# Altium schematic symbol library 4xxx_IEEE.SchLib: 98 symbols
Pins are listed as number, name and electrical type; pins without a type are passive.

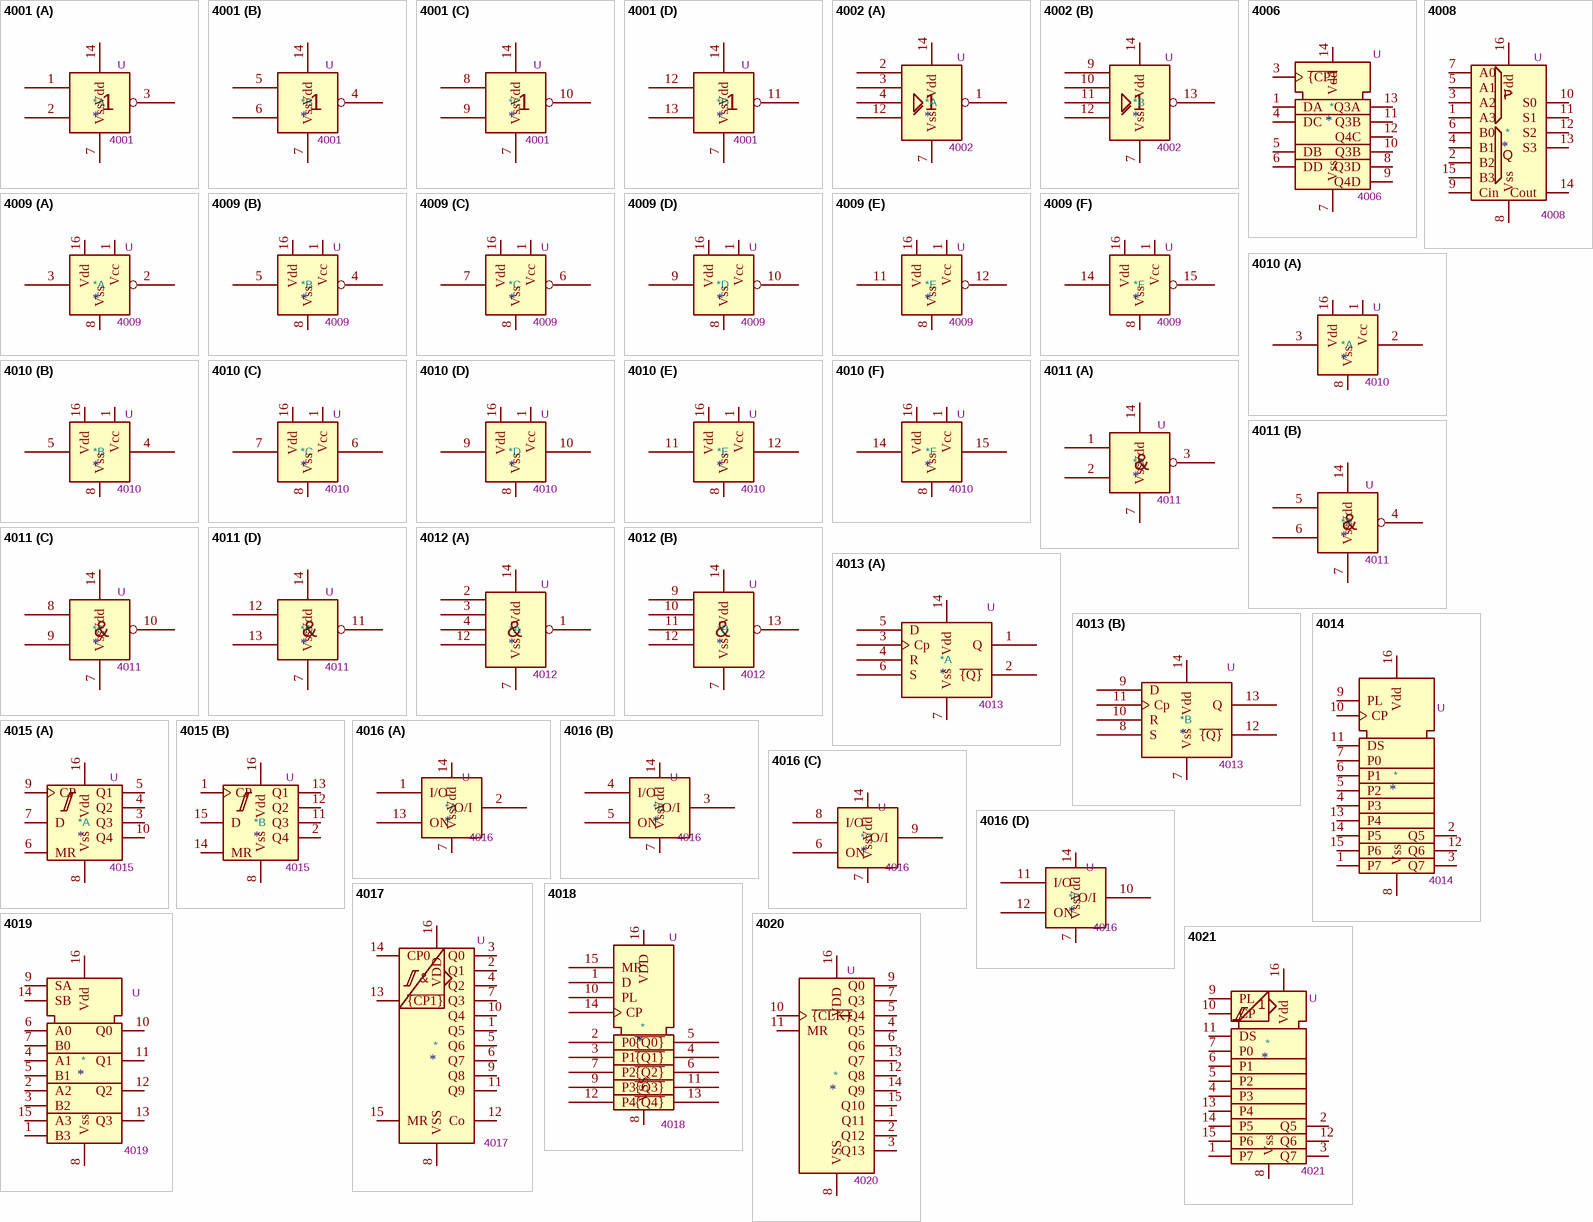
[diagram p0: symbols 4001 to 4021]

## 4001
designator *  value 4001  Reference: U
part A pins: 1, 2, 3, 7 Vss, 14 Vdd
part B pins: 4, 5, 6, 7 Vss, 14 Vdd
part C pins: 7 Vss, 8, 9, 10, 14 Vdd
part D pins: 7 Vss, 11, 12, 13, 14 Vdd

## 4002
designator *  value 4002  Reference: U
part A pins: 1, 2, 3, 4, 7 Vss, 12, 14 Vdd
part B pins: 7 Vss, 9, 10, 11, 12, 13, 14 Vdd

## 4006
designator *  value 4006  Reference: U
pins: 1 DA, 3 ~{{CP}}, 4 DC, 5 DB, 6 DD, 7 Vss, 8 Q3D, 9 Q4D, 10 Q3B, 11 Q3B, 12 Q4C, 13 Q3A, 14 Vdd

## 4008
designator *  value 4008  Reference: U
pins: 1 A3, 2 B2, 3 A2, 4 B1, 5 A1, 6 B0, 7 A0, 8 Vss, 9 Cin, 10 S0, 11 S1, 12 S2, 13 S3, 14 Cout, 15 B3, 16 Vdd
text: P; Q

## 4009
designator *  value 4009  Reference: U
part A pins: 1 Vcc, 2, 3, 8 Vss, 16 Vdd
part B pins: 1 Vcc, 4, 5, 8 Vss, 16 Vdd
part C pins: 1 Vcc, 6, 7, 8 Vss, 16 Vdd
part D pins: 1 Vcc, 8 Vss, 9, 10, 16 Vdd
part E pins: 1 Vcc, 8 Vss, 11, 12, 16 Vdd
part F pins: 1 Vcc, 8 Vss, 14, 15, 16 Vdd

## 4010
designator *  value 4010  Reference: U
part A pins: 1 Vcc, 2, 3, 8 Vss, 16 Vdd
part B pins: 1 Vcc, 4, 5, 8 Vss, 16 Vdd
part C pins: 1 Vcc, 6, 7, 8 Vss, 16 Vdd
part D pins: 1 Vcc, 8 Vss, 9, 10, 16 Vdd
part E pins: 1 Vcc, 8 Vss, 11, 12, 16 Vdd
part F pins: 1 Vcc, 8 Vss, 14, 15, 16 Vdd

## 4011
designator *  value 4011  Reference: U
part A pins: 1, 2, 3, 7 Vss, 14 Vdd
part B pins: 4, 5, 6, 7 Vss, 14 Vdd
part C pins: 7 Vss, 8, 9, 10, 14 Vdd
part D pins: 7 Vss, 11, 12, 13, 14 Vdd
part A text: &
part B text: &
part C text: &
part D text: &

## 4012
designator *  value 4012  Reference: U
part A pins: 1, 2, 3, 4, 7 Vss, 12, 14 Vdd
part B pins: 7 Vss, 9, 10, 11, 12, 13, 14 Vdd
part A text: &
part B text: &

## 4013
designator *  value 4013  Reference: U
part A pins: 1 Q, 2 ~{{Q}}, 3 Cp, 4 R, 5 D, 6 S, 7 Vss, 14 Vdd
part B pins: 7 Vss, 8 S, 9 D, 10 R, 11 Cp, 12 ~{{Q}}, 13 Q, 14 Vdd

## 4014
designator *  value 4014  Reference: U
pins: 1 P7, 2 Q5, 3 Q7, 4 P3, 5 P2, 6 P1, 7 P0, 8 Vss, 9 PL, 10 CP, 11 DS, 12 Q6, 13 P4, 14 P5, 15 P6, 16 Vdd

## 4015
designator *  value 4015  Reference: U
part A pins: 3 Q3, 4 Q2, 5 Q1, 6 MR, 7 D, 8 Vss, 9 CP, 10 Q4, 16 Vdd
part B pins: 1 CP, 2 Q4, 8 Vss, 11 Q3, 12 Q2, 13 Q1, 14 MR, 15 D, 16 Vdd

## 4016
designator *  value 4016  Reference: U
part A pins: 1 I/O, 2 O/I, 7 Vss, 13 ON, 14 Vdd
part B pins: 3 O/I, 4 I/O, 5 ON, 7 Vss, 14 Vdd
part C pins: 6 ON, 7 Vss, 8 I/O, 9 O/I, 14 Vdd
part D pins: 7 Vss, 10 O/I, 11 I/O, 12 ON, 14 Vdd

## 4017
designator *  value 4017  Reference: U
pins: 1 Q5, 2 Q1, 3 Q0, 4 Q2, 5 Q6, 6 Q7, 7 Q3, 8 VSS, 9 Q8, 10 Q4, 11 Q9, 12 Co, 13 ~{{CP1}}, 14 CP0, 15 MR, 16 VDD
text: &

## 4018
designator *  value 4018  Reference: U
pins: 1 D, 2 P0, 3 P1, 4 ~{{Q1}}, 5 ~{{Q0}}, 6 ~{{Q2}}, 7 P2, 8 VSS, 9 P3, 10 PL, 11 ~{{Q3}}, 12 P4, 13 ~{{Q4}}, 14 CP, 15 MR, 16 VDD

## 4019
designator *  value 4019  Reference: U
pins: 1 B3, 2 A2, 3 B2, 4 A1, 5 B1, 6 A0, 7 B0, 8 Vss, 9 SA, 10 Q0, 11 Q1, 12 Q2, 13 Q3, 14 SB, 15 A3, 16 Vdd

## 4020
designator *  value 4020  Reference: U
pins: 1 Q11, 2 Q12, 3 Q13, 4 Q5, 5 Q4, 6 Q6, 7 Q3, 8 VSS, 9 Q0, 10 ~{{CLK}}, 11 MR, 12 Q8, 13 Q7, 14 Q9, 15 Q10, 16 VDD

## 4021
designator *  value 4021  Reference: U
pins: 1 P7, 2 Q5, 3 Q7, 4 P3, 5 P2, 6 P1, 7 P0, 8 Vss, 9 PL, 10 CP, 11 DS, 12 Q6, 13 P4, 14 P5, 15 P6, 16 Vdd

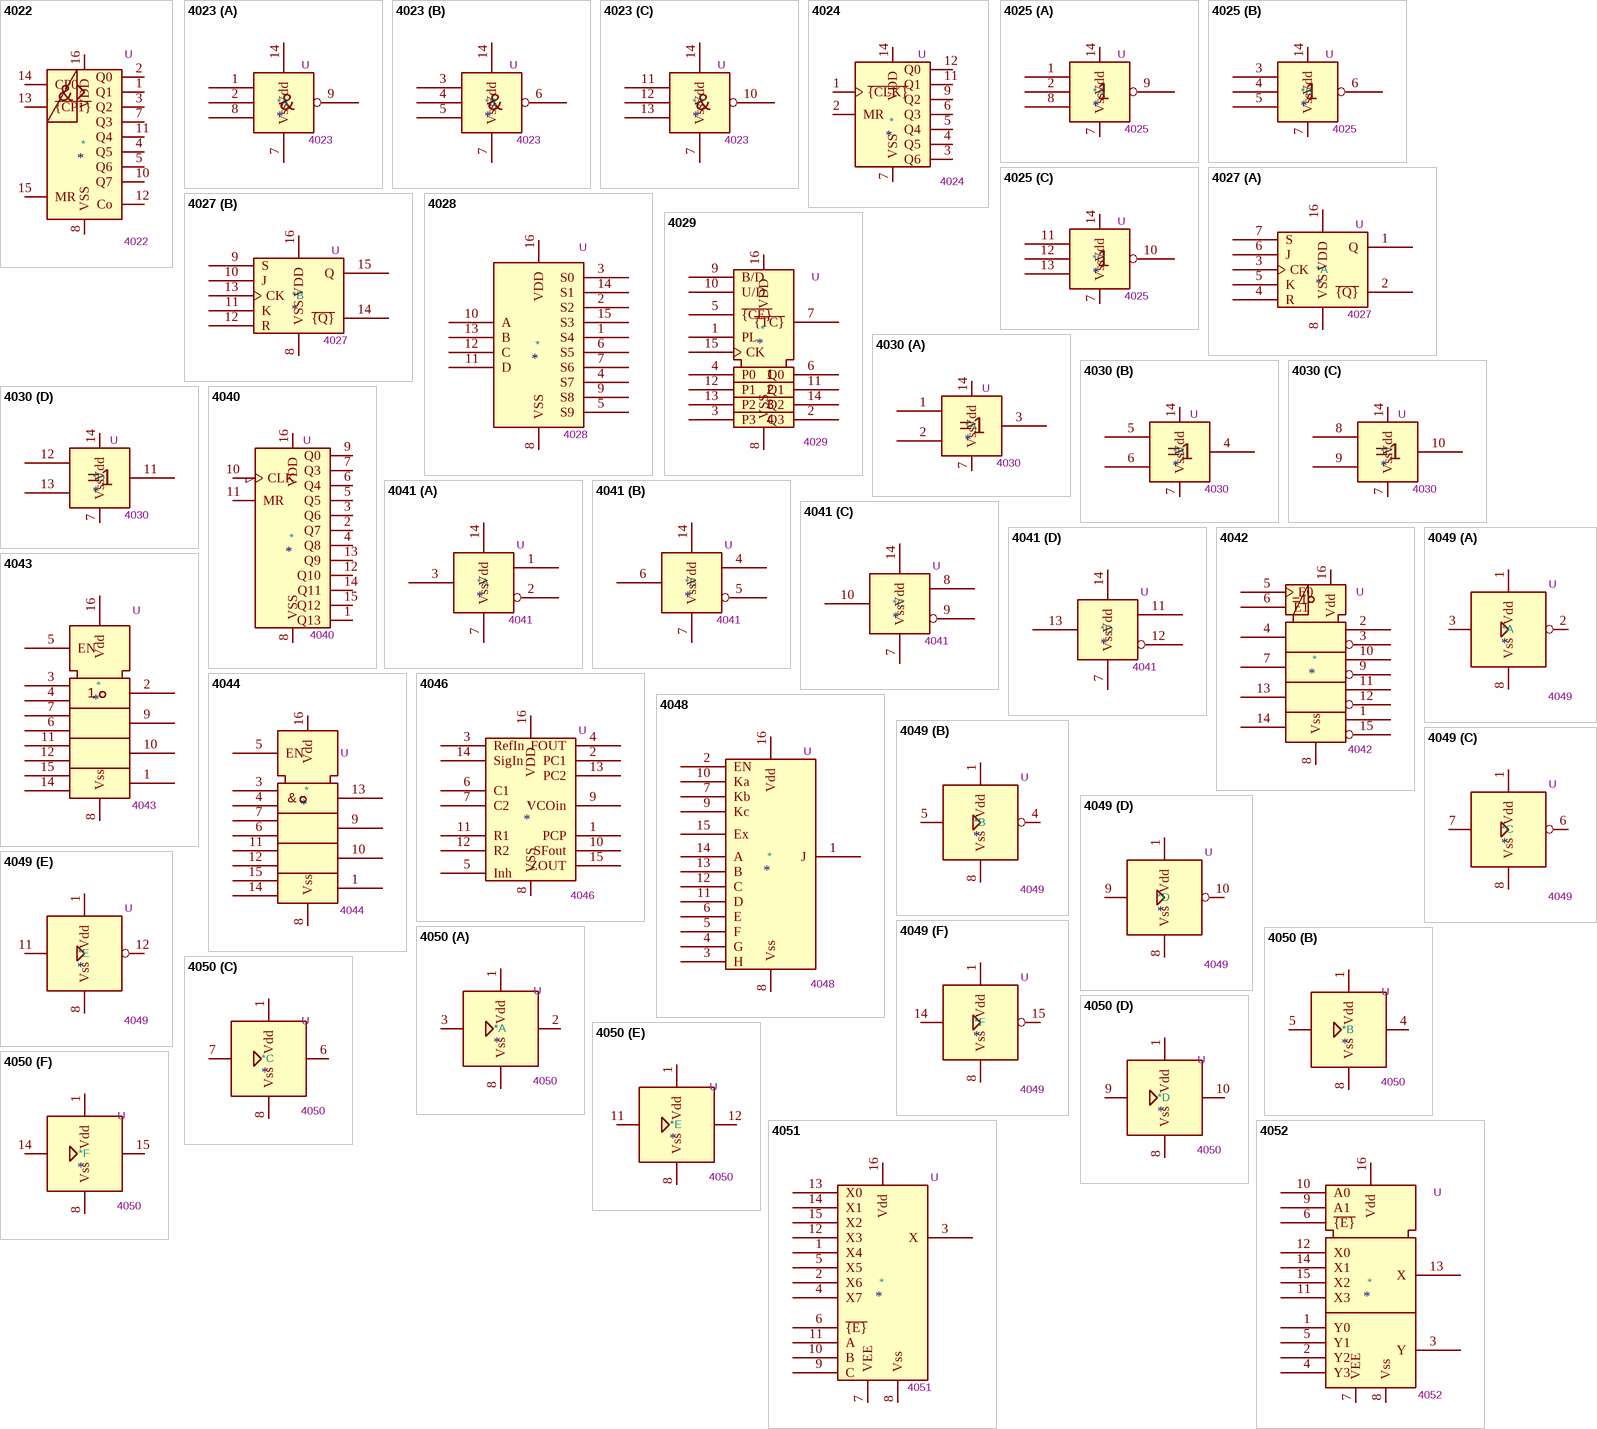
[diagram p1: symbols 4022 to 4052]

## 4022
designator *  value 4022  Reference: U
pins: 1 Q1, 2 Q0, 3 Q2, 4 Q5, 5 Q6, 7 Q3, 8 VSS, 10 Q7, 11 Q4, 12 Co, 13 ~{{CP1}}, 14 CP0, 15 MR, 16 VDD
text: &

## 4023
designator *  value 4023  Reference: U
part A pins: 1, 2, 7 Vss, 8, 9, 14 Vdd
part B pins: 3, 4, 5, 6, 7 Vss, 14 Vdd
part C pins: 7 Vss, 10, 11, 12, 13, 14 Vdd
part A text: &
part B text: &
part C text: &

## 4024
designator *  value 4024  Reference: U
pins: 1 ~{{CLK}}, 2 MR, 3 Q6, 4 Q5, 5 Q4, 6 Q3, 7 VSS, 9 Q2, 11 Q1, 12 Q0, 14 VDD

## 4025
designator *  value 4025  Reference: U
part A pins: 1, 2, 7 Vss, 8, 9, 14 Vdd
part B pins: 3, 4, 5, 6, 7 Vss, 14 Vdd
part C pins: 7 Vss, 10, 11, 12, 13, 14 Vdd

## 4027
designator *  value 4027  Reference: U
part A pins: 1 Q, 2 ~{{Q}}, 3 CK, 4 R, 5 K, 6 J, 7 S, 8 VSS, 16 VDD
part B pins: 8 VSS, 9 S, 10 J, 11 K, 12 R, 13 CK, 14 ~{{Q}}, 15 Q, 16 VDD

## 4028
designator *  value 4028  Reference: U
pins: 1 S4, 2 S2, 3 S0, 4 S7, 5 S9, 6 S5, 7 S6, 8 VSS, 9 S8, 10 A, 11 D, 12 C, 13 B, 14 S1, 15 S3, 16 VDD

## 4029
designator *  value 4029  Reference: U
pins: 1 PL, 2 Q3, 3 P3, 4 P0, 5 ~{{CE}}, 6 Q0, 7 ~{{TC}}, 8 VSS, 9 B/D, 10 U/D, 11 Q1, 12 P1, 13 P2, 14 Q2, 15 CK, 16 VDD

## 4030
designator *  value 4030  Reference: U
part A pins: 1, 2, 3, 7 Vss, 14 Vdd
part B pins: 4, 5, 6, 7 Vss, 14 Vdd
part C pins: 7 Vss, 8, 9, 10, 14 Vdd
part D pins: 7 Vss, 11, 12, 13, 14 Vdd

## 4040
designator *  value 4040  Reference: U
pins: 1 Q13, 2 Q7, 3 Q6, 4 Q8, 5 Q5, 6 Q4, 7 Q3, 8 VSS, 9 Q0, 10 CLK, 11 MR, 12 Q10, 13 Q9, 14 Q11, 15 Q12, 16 VDD

## 4041
designator *  value 4041  Reference: U
part A pins: 1, 2, 3, 7 Vss, 14 Vdd
part B pins: 4, 5, 6, 7 Vss, 14 Vdd
part C pins: 7 Vss, 8, 9, 10, 14 Vdd
part D pins: 7 Vss, 11, 12, 13, 14 Vdd

## 4042
designator *  value 4042  Reference: U
pins: 1, 2, 3, 4, 5 E0, 6 E1, 7, 8 Vss, 9, 10, 11, 12, 13, 14, 15, 16 Vdd

## 4043
designator *  value 4043  Reference: U
pins: 1, 2, 3, 4, 5 EN, 6, 7, 8 Vss, 9, 10, 11, 12, 14, 15, 16 Vdd

## 4044
designator *  value 4044  Reference: U
pins: 1, 3, 4, 5 EN, 6, 7, 8 Vss, 9, 10, 11, 12, 13, 14, 15, 16 Vdd
text: &

## 4046
designator *  value 4046  Reference: U
pins: 1 PCP, 2 PC1, 3 RefIn, 4 FOUT, 5 Inh, 6 C1, 7 C2, 8 VSS, 9 VCOin, 10 SFout, 11 R1, 12 R2, 13 PC2, 14 SigIn, 15 ZOUT, 16 VDD

## 4048
designator *  value 4048  Reference: U
pins: 1 J, 2 EN, 3 H, 4 G, 5 F, 6 E, 7 Kb, 8 Vss, 9 Kc, 10 Ka, 11 D, 12 C, 13 B, 14 A, 15 Ex, 16 Vdd

## 4049
designator *  value 4049  Reference: U
part A pins: 1 Vdd, 2, 3, 8 Vss
part B pins: 1 Vdd, 4, 5, 8 Vss
part C pins: 1 Vdd, 6, 7, 8 Vss
part D pins: 1 Vdd, 8 Vss, 9, 10
part E pins: 1 Vdd, 8 Vss, 11, 12
part F pins: 1 Vdd, 8 Vss, 14, 15

## 4050
designator *  value 4050  Reference: U
part A pins: 1 Vdd, 2, 3, 8 Vss
part B pins: 1 Vdd, 4, 5, 8 Vss
part C pins: 1 Vdd, 6, 7, 8 Vss
part D pins: 1 Vdd, 8 Vss, 9, 10
part E pins: 1 Vdd, 8 Vss, 11, 12
part F pins: 1 Vdd, 8 Vss, 14, 15

## 4051
designator *  value 4051  Reference: U
pins: 1 X4, 2 X6, 3 X, 4 X7, 5 X5, 6 ~{{E}}, 7 VEE, 8 Vss, 9 C, 10 B, 11 A, 12 X3, 13 X0, 14 X1, 15 X2, 16 Vdd

## 4052
designator *  value 4052  Reference: U
pins: 1 Y0, 2 Y2, 3 Y, 4 Y3, 5 Y1, 6 ~{{E}}, 7 VEE, 8 Vss, 9 A1, 10 A0, 11 X3, 12 X0, 13 X, 14 X1, 15 X2, 16 Vdd

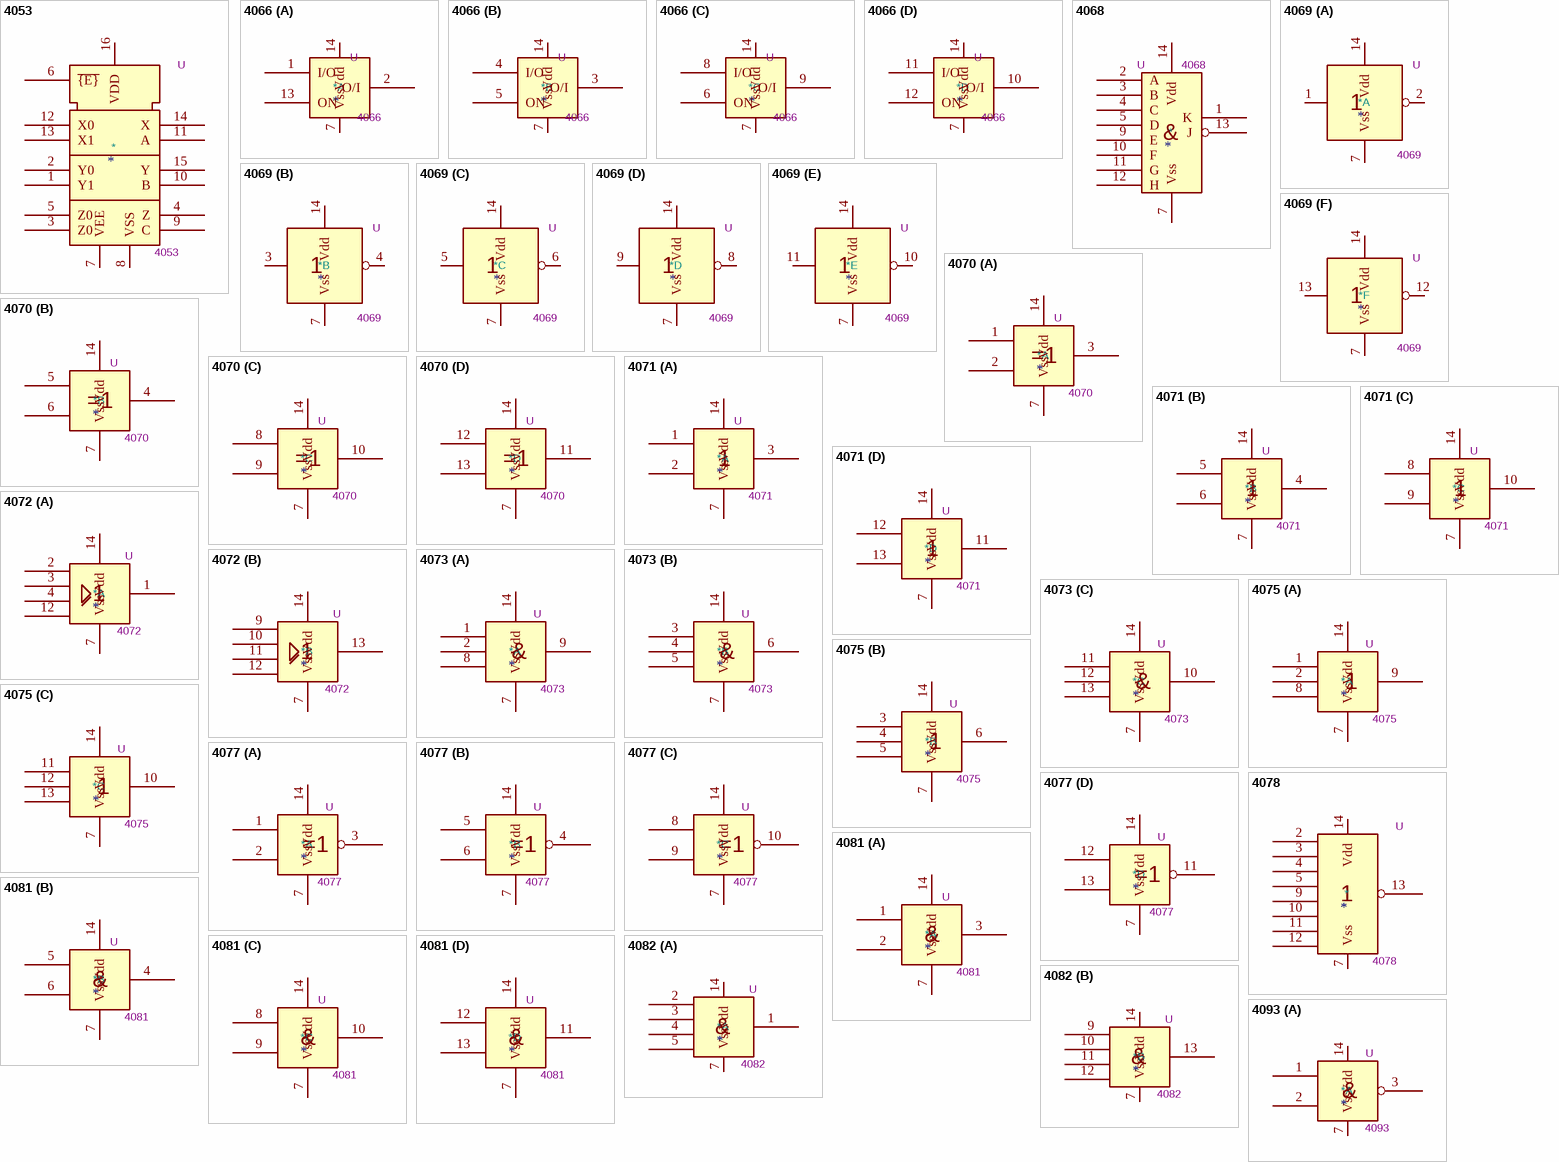
[diagram p2: symbols 4053 to 4093]

## 4053
designator *  value 4053  Reference: U
pins: 1 Y1, 2 Y0, 3 Z0, 4 Z, 5 Z0, 6 ~{{E}}, 7 VEE, 8 VSS, 9 C, 10 B, 11 A, 12 X0, 13 X1, 14 X, 15 Y, 16 VDD

## 4066
designator *  value 4066  Reference: U
part A pins: 1 I/O, 2 O/I, 7 Vss, 13 ON, 14 Vdd
part B pins: 3 O/I, 4 I/O, 5 ON, 7 Vss, 14 Vdd
part C pins: 6 ON, 7 Vss, 8 I/O, 9 O/I, 14 Vdd
part D pins: 7 Vss, 10 O/I, 11 I/O, 12 ON, 14 Vdd

## 4068
designator *  value 4068  Reference: U
ki_keywords: cmos nand and 8-input; ki_description: CMOS 8-input NAND/AND Gate; Datasheet: http://www.ti.com/lit/ds/symlink/cd4068b.pdf
pins: 1 K, 2 A, 3 B, 4 C, 5 D, 7 Vss, 9 E, 10 F, 11 G, 12 H, 13 J, 14 Vdd
text: &

## 4069
designator *  value 4069  Reference: U
part A pins: 1, 2, 7 Vss, 14 Vdd
part B pins: 3, 4, 7 Vss, 14 Vdd
part C pins: 5, 6, 7 Vss, 14 Vdd
part D pins: 7 Vss, 8, 9, 14 Vdd
part E pins: 7 Vss, 10, 11, 14 Vdd
part F pins: 7 Vss, 12, 13, 14 Vdd

## 4070
designator *  value 4070  Reference: U
part A pins: 1, 2, 3, 7 Vss, 14 Vdd
part B pins: 4, 5, 6, 7 Vss, 14 Vdd
part C pins: 7 Vss, 8, 9, 10, 14 Vdd
part D pins: 7 Vss, 11, 12, 13, 14 Vdd

## 4071
designator *  value 4071  Reference: U
part A pins: 1, 2, 3, 7 Vss, 14 Vdd
part B pins: 4, 5, 6, 7 Vss, 14 Vdd
part C pins: 7 Vss, 8, 9, 10, 14 Vdd
part D pins: 7 Vss, 11, 12, 13, 14 Vdd

## 4072
designator *  value 4072  Reference: U
part A pins: 1, 2, 3, 4, 7 Vss, 12, 14 Vdd
part B pins: 7 Vss, 9, 10, 11, 12, 13, 14 Vdd

## 4073
designator *  value 4073  Reference: U
part A pins: 1, 2, 7 Vss, 8, 9, 14 Vdd
part B pins: 3, 4, 5, 6, 7 Vss, 14 Vdd
part C pins: 7 Vss, 10, 11, 12, 13, 14 Vdd
part A text: &
part B text: &
part C text: &

## 4075
designator *  value 4075  Reference: U
part A pins: 1, 2, 7 Vss, 8, 9, 14 Vdd
part B pins: 3, 4, 5, 6, 7 Vss, 14 Vdd
part C pins: 7 Vss, 10, 11, 12, 13, 14 Vdd

## 4077
designator *  value 4077  Reference: U
part A pins: 1, 2, 3, 7 Vss, 14 Vdd
part B pins: 4, 5, 6, 7 Vss, 14 Vdd
part C pins: 7 Vss, 8, 9, 10, 14 Vdd
part D pins: 7 Vss, 11, 12, 13, 14 Vdd

## 4078
designator *  value 4078  Reference: U
pins: 2, 3, 4, 5, 7 Vss, 9, 10, 11, 12, 13, 14 Vdd
text: 1

## 4081
designator *  value 4081  Reference: U
part A pins: 1, 2, 3, 7 Vss, 14 Vdd
part B pins: 4, 5, 6, 7 Vss, 14 Vdd
part C pins: 7 Vss, 8, 9, 10, 14 Vdd
part D pins: 7 Vss, 11, 12, 13, 14 Vdd
part A text: &
part B text: &
part C text: &
part D text: &

## 4082
designator *  value 4082  Reference: U
part A pins: 1, 2, 3, 4, 5, 7 Vss, 14 Vdd
part B pins: 7 Vss, 9, 10, 11, 12, 13, 14 Vdd
part A text: &
part B text: &

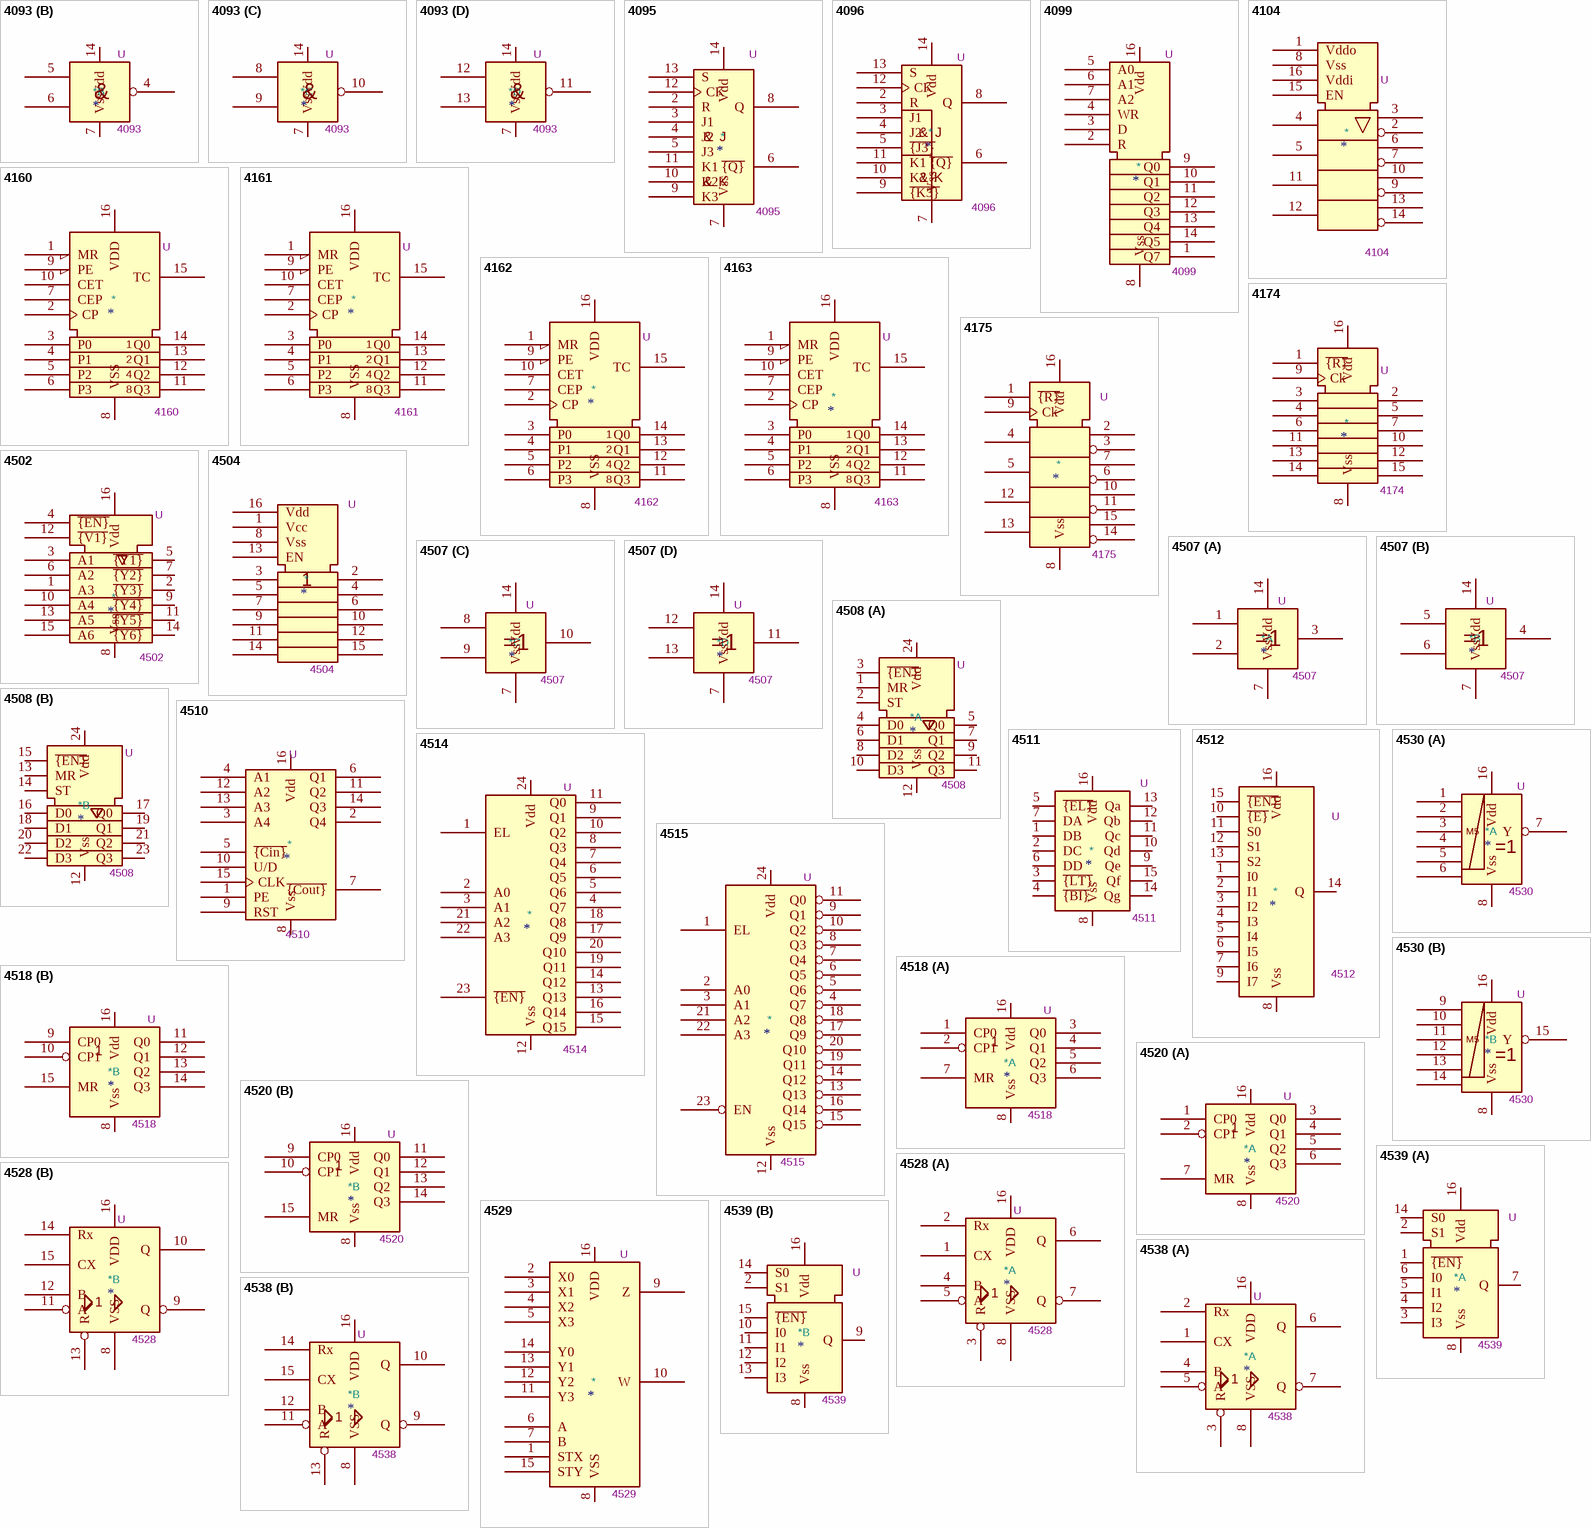
[diagram p3: symbols 4093 to 4539]

## 4093
designator *  value 4093  Reference: U
part A pins: 1, 2, 3, 7 Vss, 14 Vdd
part B pins: 4, 5, 6, 7 Vss, 14 Vdd
part C pins: 7 Vss, 8, 9, 10, 14 Vdd
part D pins: 7 Vss, 11, 12, 13, 14 Vdd
part A text: &
part B text: &
part C text: &
part D text: &

## 4095
designator *  value 4095  Reference: U
pins: 2 R, 3 J1, 4 J2, 5 J3, 6 ~{{Q}}, 7 Vss, 8 Q, 9 K3, 10 K2, 11 K1, 12 CK, 13 S, 14 Vdd
text: &; J; K

## 4096
designator *  value 4096  Reference: U
pins: 2 R, 3 J1, 4 J2, 5 ~{{J3}}, 6 ~{{Q}}, 7 Vss, 8 Q, 9 ~{{K3}}, 10 K2, 11 K1, 12 CK, 13 S, 14 Vdd
text: &; J; K

## 4099
designator *  value 4099  Reference: U
pins: 1 Q7, 2 R, 3 D, 4 WR, 5 A0, 6 A1, 7 A2, 8 Vss, 9 Q0, 10 Q1, 11 Q2, 12 Q3, 13 Q4, 14 Q5, 16 Vdd

## 4104
designator *  value 4104  Reference: U
pins: 1 Vddo, 2, 3, 4, 5, 6, 7, 8 Vss, 9, 10, 11, 12, 13, 14, 15 EN, 16 Vddi

## 4160
designator *  value 4160  Reference: U
pins: 1 MR, 2 CP, 3 P0, 4 P1, 5 P2, 6 P3, 7 CEP, 8 VSS, 9 PE, 10 CET, 11 Q3, 12 Q2, 13 Q1, 14 Q0, 15 TC, 16 VDD

## 4161
designator *  value 4161  Reference: U
pins: 1 MR, 2 CP, 3 P0, 4 P1, 5 P2, 6 P3, 7 CEP, 8 VSS, 9 PE, 10 CET, 11 Q3, 12 Q2, 13 Q1, 14 Q0, 15 TC, 16 VDD

## 4162
designator *  value 4162  Reference: U
pins: 1 MR, 2 CP, 3 P0, 4 P1, 5 P2, 6 P3, 7 CEP, 8 VSS, 9 PE, 10 CET, 11 Q3, 12 Q2, 13 Q1, 14 Q0, 15 TC, 16 VDD

## 4163
designator *  value 4163  Reference: U
pins: 1 MR, 2 CP, 3 P0, 4 P1, 5 P2, 6 P3, 7 CEP, 8 VSS, 9 PE, 10 CET, 11 Q3, 12 Q2, 13 Q1, 14 Q0, 15 TC, 16 VDD

## 4174
designator *  value 4174  Reference: U
pins: 1 ~{{R}}, 2, 3, 4, 5, 6, 7, 8 Vss, 9 Ck, 10, 11, 12, 13, 14, 15, 16 Vdd

## 4175
designator *  value 4175  Reference: U
pins: 1 ~{{R}}, 2, 3, 4, 5, 6, 7, 8 Vss, 9 Ck, 10, 11, 12, 13, 14, 15, 16 Vdd

## 4502
designator *  value 4502  Reference: U
pins: 1 A3, 2 ~{{Y3}}, 3 A1, 4 ~{{EN}}, 5 ~{{Y1}}, 6 A2, 7 ~{{Y2}}, 8 Vss, 9 ~{{Y4}}, 10 A4, 11 ~{{Y5}}, 12 ~{{V1}}, 13 A5, 14 ~{{Y6}}, 15 A6, 16 Vdd

## 4504
designator *  value 4504  Reference: U
ki_keywords: cmos, level converter; ki_description: 4504 Hex Voltage-level Shifter; Datasheet: http://www.ti.com/lit/ds/symlink/cd4504b.pdf
pins: 1 Vcc, 2, 3, 4, 5, 6, 7, 8 Vss, 9, 10, 11, 12, 13 EN, 14, 15, 16 Vdd

## 4507
designator *  value 4507  Reference: U
part A pins: 1, 2, 3, 7 Vss, 14 Vdd
part B pins: 4, 5, 6, 7 Vss, 14 Vdd
part C pins: 7 Vss, 8, 9, 10, 14 Vdd
part D pins: 7 Vss, 11, 12, 13, 14 Vdd

## 4508
designator *  value 4508  Reference: U
part A pins: 1 MR, 2 ST, 3 ~{{EN}}, 4 D0, 5 Q0, 6 D1, 7 Q1, 8 D2, 9 Q2, 10 D3, 11 Q3, 12 Vss, 24 Vdd
part B pins: 12 Vss, 13 MR, 14 ST, 15 ~{{EN}}, 16 D0, 17 Q0, 18 D1, 19 Q1, 20 D2, 21 Q2, 22 D3, 23 Q3, 24 Vdd

## 4510
designator *  value 4510  Reference: U
pins: 1 PE, 2 Q4, 3 A4, 4 A1, 5 ~{{Cin}}, 6 Q1, 7 ~{{Cout}}, 8 Vss, 9 RST, 10 U/D, 11 Q2, 12 A2, 13 A3, 14 Q3, 15 CLK, 16 Vdd

## 4511
designator *  value 4511  Reference: U
pins: 1 DB, 2 DC, 3 ~{{LT}}, 4 ~{{BI}}, 5 ~{{EL}}, 6 DD, 7 DA, 8 Vss, 9 Qe, 10 Qd, 11 Qc, 12 Qb, 13 Qa, 14 Qg, 15 Qf, 16 Vdd

## 4512
designator *  value 4512  Reference: U
pins: 1 I0, 2 I1, 3 I2, 4 I3, 5 I4, 6 I5, 7 I6, 8 Vss, 9 I7, 10 ~{{E}}, 11 S0, 12 S1, 13 S2, 14 Q, 15 ~{{EN}}, 16 Vdd

## 4514
designator *  value 4514  Reference: U
pins: 1 EL, 2 A0, 3 A1, 4 Q7, 5 Q6, 6 Q5, 7 Q4, 8 Q3, 9 Q1, 10 Q2, 11 Q0, 12 Vss, 13 Q13, 14 Q12, 15 Q15, 16 Q14, 17 Q9, 18 Q8, 19 Q11, 20 Q10, 21 A2, 22 A3, 23 ~{{EN}}, 24 Vdd

## 4515
designator *  value 4515  Reference: U
pins: 1 EL, 2 A0, 3 A1, 4 Q7, 5 Q6, 6 Q5, 7 Q4, 8 Q3, 9 Q1, 10 Q2, 11 Q0, 12 Vss, 13 Q13, 14 Q12, 15 Q15, 16 Q14, 17 Q9, 18 Q8, 19 Q11, 20 Q10, 21 A2, 22 A3, 23 EN, 24 Vdd

## 4518
designator *  value 4518  Reference: U
part A pins: 1 CP0, 2 CP1, 3 Q0, 4 Q1, 5 Q2, 6 Q3, 7 MR, 8 Vss, 16 Vdd
part B pins: 8 Vss, 9 CP0, 10 CP1, 11 Q0, 12 Q1, 13 Q2, 14 Q3, 15 MR, 16 Vdd

## 4520
designator *  value 4520  Reference: U
part A pins: 1 CP0, 2 CP1, 3 Q0, 4 Q1, 5 Q2, 6 Q3, 7 MR, 8 Vss, 16 Vdd
part B pins: 8 Vss, 9 CP0, 10 CP1, 11 Q0, 12 Q1, 13 Q2, 14 Q3, 15 MR, 16 Vdd

## 4528
designator *  value 4528  Reference: U
part A pins: 1 CX, 2 Rx, 3 R, 4 B, 5 A, 6 Q, 7 Q, 8 VSS, 16 VDD
part B pins: 8 VSS, 9 Q, 10 Q, 11 A, 12 B, 13 R, 14 Rx, 15 CX, 16 VDD

## 4529
designator *  value 4529  Reference: U
pins: 1 STX, 2 X0, 3 X1, 4 X2, 5 X3, 6 A, 7 B, 8 VSS, 9 Z, 10 W, 11 Y3, 12 Y2, 13 Y1, 14 Y0, 15 STY, 16 VDD

## 4530
designator *  value 4530  Reference: U
part A pins: 1, 2, 3, 4, 5, 6, 7 Y, 8 Vss, 16 Vdd
part B pins: 8 Vss, 9, 10, 11, 12, 13, 14, 15 Y, 16 Vdd
part A text: M5
part B text: M5

## 4538
designator *  value 4538  Reference: U
part A pins: 1 CX, 2 Rx, 3 R, 4 B, 5 A, 6 Q, 7 Q, 8 VSS, 16 VDD
part B pins: 8 VSS, 9 Q, 10 Q, 11 A, 12 B, 13 R, 14 Rx, 15 CX, 16 VDD

## 4539
designator *  value 4539  Reference: U
part A pins: 1 ~{{EN}}, 2 S1, 3 I3, 4 I2, 5 I1, 6 I0, 7 Q, 8 Vss, 14 S0, 16 Vdd
part B pins: 2 S1, 8 Vss, 9 Q, 10 I0, 11 I1, 12 I2, 13 I3, 14 S0, 15 ~{{EN}}, 16 Vdd

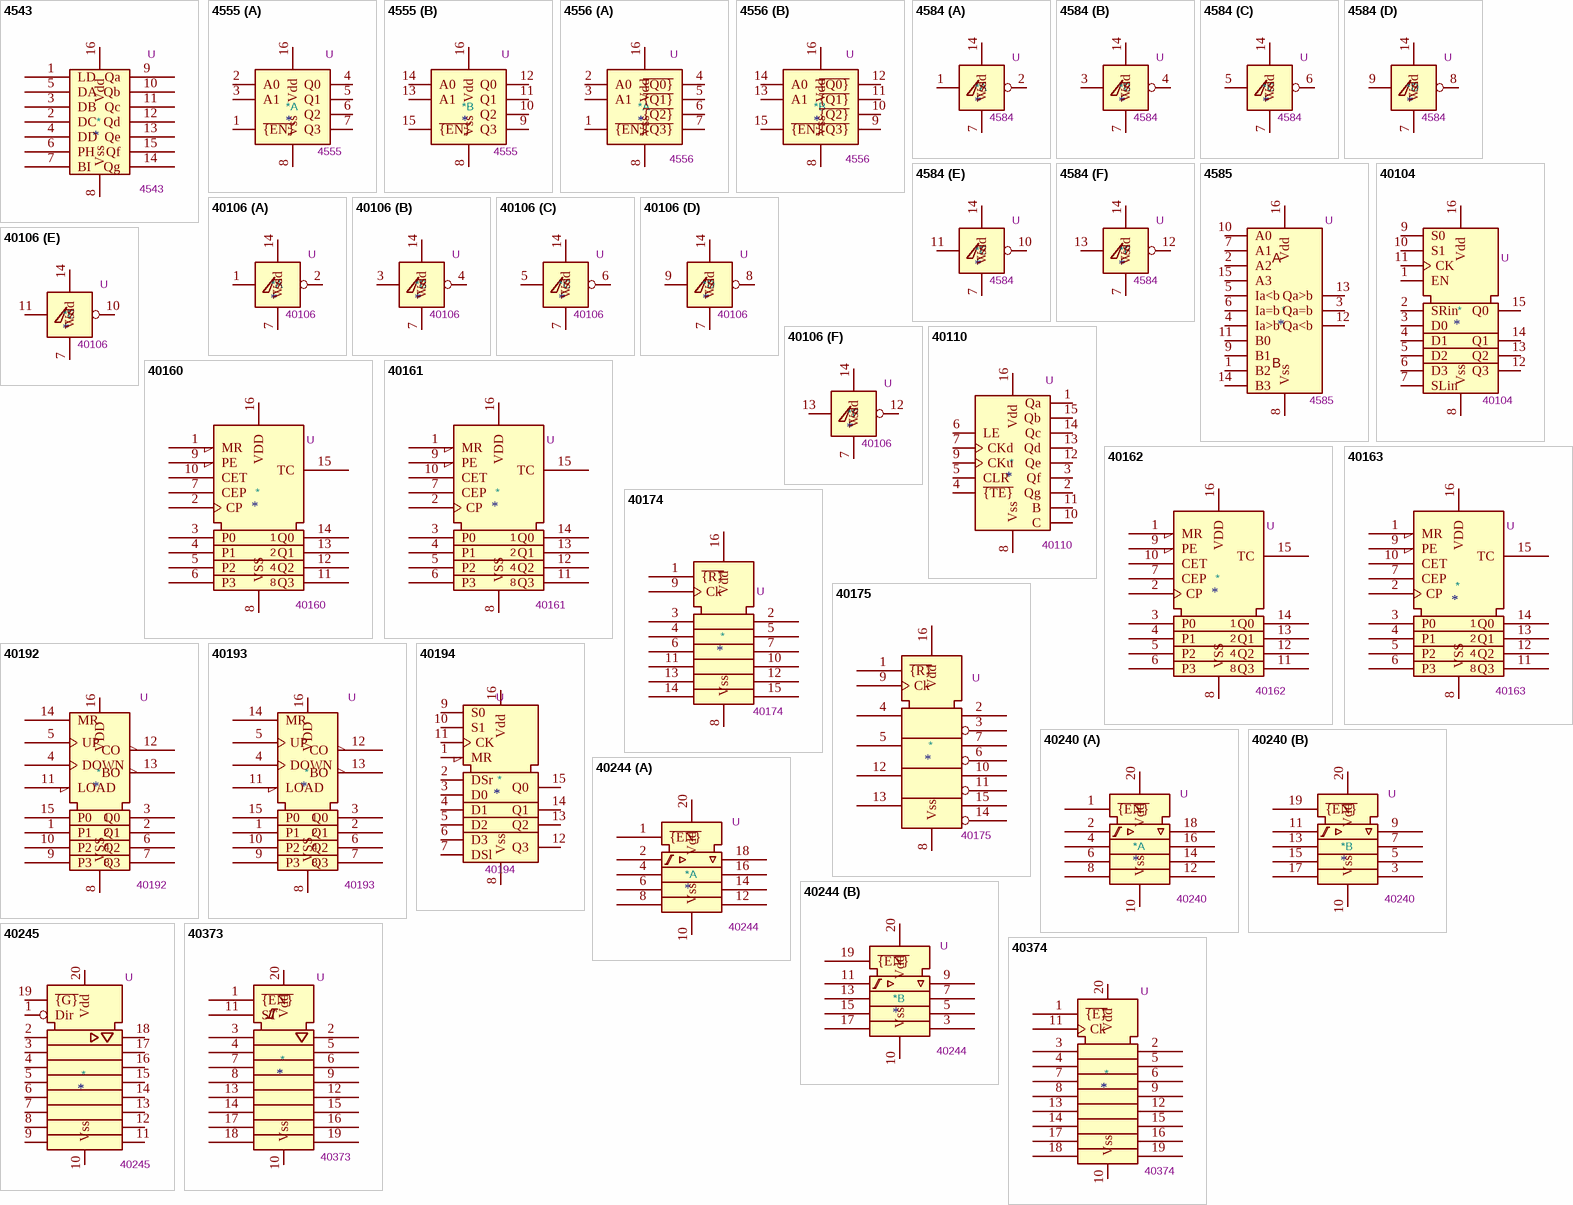
[diagram p4: symbols 4543 to 40374]

## 4543
designator *  value 4543  Reference: U
pins: 1 LD, 2 DC, 3 DB, 4 DD, 5 DA, 6 PH, 7 BI, 8 Vss, 9 Qa, 10 Qb, 11 Qc, 12 Qd, 13 Qe, 14 Qg, 15 Qf, 16 Vdd

## 4555
designator *  value 4555  Reference: U
part A pins: 1 ~{{EN}}, 2 A0, 3 A1, 4 Q0, 5 Q1, 6 Q2, 7 Q3, 8 Vss, 16 Vdd
part B pins: 8 Vss, 9 Q3, 10 Q2, 11 Q1, 12 Q0, 13 A1, 14 A0, 15 ~{{EN}}, 16 Vdd

## 4556
designator *  value 4556  Reference: U
part A pins: 1 ~{{EN}}, 2 A0, 3 A1, 4 ~{{Q0}}, 5 ~{{Q1}}, 6 ~{{Q2}}, 7 ~{{Q3}}, 8 Vss, 16 Vdd
part B pins: 8 Vss, 9 ~{{Q3}}, 10 ~{{Q2}}, 11 ~{{Q1}}, 12 ~{{Q0}}, 13 A1, 14 A0, 15 ~{{EN}}, 16 Vdd

## 4584
designator *  value 4584  Reference: U
part A pins: 1, 2, 7 Vss, 14 Vdd
part B pins: 3, 4, 7 Vss, 14 Vdd
part C pins: 5, 6, 7 Vss, 14 Vdd
part D pins: 7 Vss, 8, 9, 14 Vdd
part E pins: 7 Vss, 10, 11, 14 Vdd
part F pins: 7 Vss, 12, 13, 14 Vdd

## 4585
designator *  value 4585  Reference: U
pins: 1 B2, 2 A2, 3 Qa=b, 4 Ia>b, 5 Ia<b, 6 Ia=b, 7 A1, 8 Vss, 9 B1, 10 A0, 11 B0, 12 Qa<b, 13 Qa>b, 14 B3, 15 A3, 16 Vdd
text: A; B

## 40104
designator *  value 40104  Reference: U
pins: 1 EN, 2 SRin, 3 D0, 4 D1, 5 D2, 6 D3, 7 SLin, 8 Vss, 9 S0, 10 S1, 11 CK, 12 Q3, 13 Q2, 14 Q1, 15 Q0, 16 Vdd

## 40106
designator *  value 40106  Reference: U
part A pins: 1, 2, 7 Vss, 14 Vdd
part B pins: 3, 4, 7 Vss, 14 Vdd
part C pins: 5, 6, 7 Vss, 14 Vdd
part D pins: 7 Vss, 8, 9, 14 Vdd
part E pins: 7 Vss, 10, 11, 14 Vdd
part F pins: 7 Vss, 12, 13, 14 Vdd

## 40110
designator *  value 40110  Reference: U
pins: 1 Qa, 2 Qg, 3 Qf, 4 ~{{TE}}, 5 CLR, 6 LE, 7 CKd, 8 Vss, 9 CKu, 10 C, 11 B, 12 Qe, 13 Qd, 14 Qc, 15 Qb, 16 Vdd

## 40160
designator *  value 40160  Reference: U
pins: 1 MR, 2 CP, 3 P0, 4 P1, 5 P2, 6 P3, 7 CEP, 8 VSS, 9 PE, 10 CET, 11 Q3, 12 Q2, 13 Q1, 14 Q0, 15 TC, 16 VDD

## 40161
designator *  value 40161  Reference: U
pins: 1 MR, 2 CP, 3 P0, 4 P1, 5 P2, 6 P3, 7 CEP, 8 VSS, 9 PE, 10 CET, 11 Q3, 12 Q2, 13 Q1, 14 Q0, 15 TC, 16 VDD

## 40162
designator *  value 40162  Reference: U
pins: 1 MR, 2 CP, 3 P0, 4 P1, 5 P2, 6 P3, 7 CEP, 8 VSS, 9 PE, 10 CET, 11 Q3, 12 Q2, 13 Q1, 14 Q0, 15 TC, 16 VDD

## 40163
designator *  value 40163  Reference: U
pins: 1 MR, 2 CP, 3 P0, 4 P1, 5 P2, 6 P3, 7 CEP, 8 VSS, 9 PE, 10 CET, 11 Q3, 12 Q2, 13 Q1, 14 Q0, 15 TC, 16 VDD

## 40174
designator *  value 40174  Reference: U
pins: 1 ~{{R}}, 2, 3, 4, 5, 6, 7, 8 Vss, 9 Ck, 10, 11, 12, 13, 14, 15, 16 Vdd

## 40175
designator *  value 40175  Reference: U
pins: 1 ~{{R}}, 2, 3, 4, 5, 6, 7, 8 Vss, 9 Ck, 10, 11, 12, 13, 14, 15, 16 Vdd

## 40192
designator *  value 40192  Reference: U
pins: 1 P1, 2 Q1, 3 Q0, 4 DOWN, 5 UP, 6 Q2, 7 Q3, 8 VSS, 9 P3, 10 P2, 11 LOAD, 12 CO, 13 BO, 14 MR, 15 P0, 16 VDD

## 40193
designator *  value 40193  Reference: U
pins: 1 P1, 2 Q1, 3 Q0, 4 DOWN, 5 UP, 6 Q2, 7 Q3, 8 VSS, 9 P3, 10 P2, 11 LOAD, 12 CO, 13 BO, 14 MR, 15 P0, 16 VDD

## 40194
designator *  value 40194  Reference: U
pins: 1 MR, 2 DSr, 3 D0, 4 D1, 5 D2, 6 D3, 7 DSl, 8 Vss, 9 S0, 10 S1, 11 CK, 12 Q3, 13 Q2, 14 Q1, 15 Q0, 16 Vdd

## 40240
designator *  value 40240  Reference: U
part A pins: 1 ~{{EN}}, 2, 4, 6, 8, 10 Vss, 12, 14, 16, 18, 20 Vdd
part B pins: 3, 5, 7, 9, 10 Vss, 11, 13, 15, 17, 19 ~{{EN}}, 20 Vdd

## 40244
designator *  value 40244  Reference: U
part A pins: 1 ~{{EN}}, 2, 4, 6, 8, 10 Vss, 12, 14, 16, 18, 20 Vdd
part B pins: 3, 5, 7, 9, 10 Vss, 11, 13, 15, 17, 19 ~{{EN}}, 20 Vdd

## 40245
designator *  value 40245  Reference: U
pins: 1 Dir, 2, 3, 4, 5, 6, 7, 8, 9, 10 Vss, 11, 12, 13, 14, 15, 16, 17, 18, 19 ~{{G}}, 20 Vdd

## 40373
designator *  value 40373  Reference: U
pins: 1 ~{{EN}}, 2, 3, 4, 5, 6, 7, 8, 9, 10 Vss, 11 ST, 12, 13, 14, 15, 16, 17, 18, 19, 20 Vdd

## 40374
designator *  value 40374  Reference: U
ki_keywords: CMOS BUFFER 3State; ki_description: 8-bit D-flip-flop with 3-State outputs; Datasheet: https://www.digchip.com/datasheets/download_datasheet.php?id=369790&part-number=HEF40374BDB
pins: 1 ~{{E}}, 2, 3, 4, 5, 6, 7, 8, 9, 10 Vss, 11 Ck, 12, 13, 14, 15, 16, 17, 18, 19, 20 Vdd